# EAGLE library part ESP-03 (library ESP8266_ESP-03)
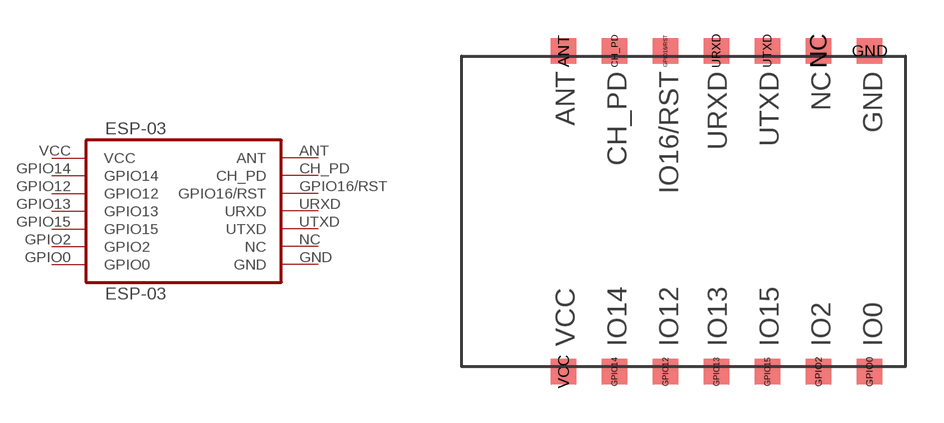
[diagram p0: symbol with the pads of ESP-03; footprint ESP-03]

Designator prefix ESP-03

## ESP-03  [ESP-03]
ANT  ANT
CH_PD  CH_PD
GND  GND  pwr
GPIO0  GPIO0
GPIO2  GPIO2
GPIO12  GPIO12
GPIO13  GPIO13
GPIO14  GPIO14
GPIO15  GPIO15
GPIO16/RST  GPIO16/RST
NC  NC
URXD  URXD
UTXD  UTXD
VCC  VCC  pwr

## Footprint ESP-03 (pad centres in mm)
smd 1 x 1: ANT -4.89,6.05; CH_PD -2.89,6.05; GND 7.11,6.05; GPIO0 7.11,-6.55; GPIO2 5.11,-6.55; GPIO12 -0.89,-6.55; GPIO13 1.11,-6.55; GPIO14 -2.89,-6.55; GPIO15 3.11,-6.55; GPIO16/RST -0.89,6.05; NC 5.11,6.05; URXD 1.11,6.05; UTXD 3.11,6.05; VCC -4.89,-6.55